# EAGLE library part TMP36-R8 (library TMP36)
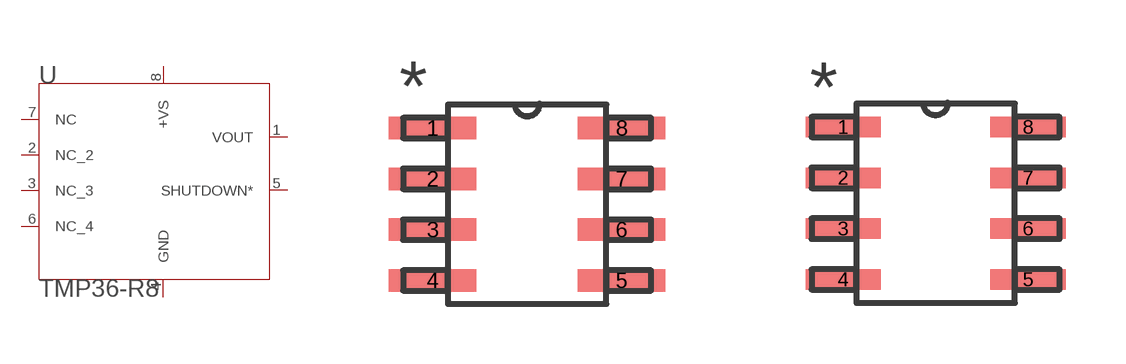
[diagram p0: symbol with the pads of R_8; footprints R_8, R_8-L]

Designator prefix U

## TMP36-R8SOIC_N-PAD_M (MANUFACTURER_PART_NUMBER: TMP36FS; VENDOR: Vendor)  [R_8]
1  VOUT  out
2  NC_2  nc
3  NC_3  nc
4  GND  pwr
5  SHUTDOWN*  in
6  NC_4  nc
7  NC  nc
8  +VS  pwr

## TMP36-R8SOIC_N-PAD_S  [R_8-L]
1  VOUT  out
2  NC  nc
3  NC_2  nc
4  GND  pwr
5  SHUTDOWN*  in
6  NC_3  nc
7  NC_4  nc
8  +VS  pwr

## TMP36-R8SOIC_N-PAD_L  [R_8-M]
Pads as for R_8-L

## Footprint R_8 (pad centres in mm)
smd 2.184 x 0.559: 1 -2.362,1.905; 2 -2.362,0.635; 3 -2.362,-0.635; 4 -2.362,-1.905; 5 2.362,-1.905; 6 2.362,-0.635; 7 2.362,0.635; 8 2.362,1.905

## Footprint R_8-L (pad centres in mm)
smd 1.88 x 0.508: 1 -2.311,1.905; 2 -2.311,0.635; 3 -2.311,-0.635; 4 -2.311,-1.905; 5 2.311,-1.905; 6 2.311,-0.635; 7 2.311,0.635; 8 2.311,1.905

## Footprint R_8-M (pad centres in mm)
smd 2.489 x 0.61: 1 -2.413,1.905; 2 -2.413,0.635; 3 -2.413,-0.635; 4 -2.413,-1.905; 5 2.413,-1.905; 6 2.413,-0.635; 7 2.413,0.635; 8 2.413,1.905